# Altium schematic symbol library SCH - MCU - ATSAM - MICROCHIP SAME51G18A-MU QFN48.SchLib: 1 symbol
Pins are listed as number, name and electrical type; pins without a type are passive.

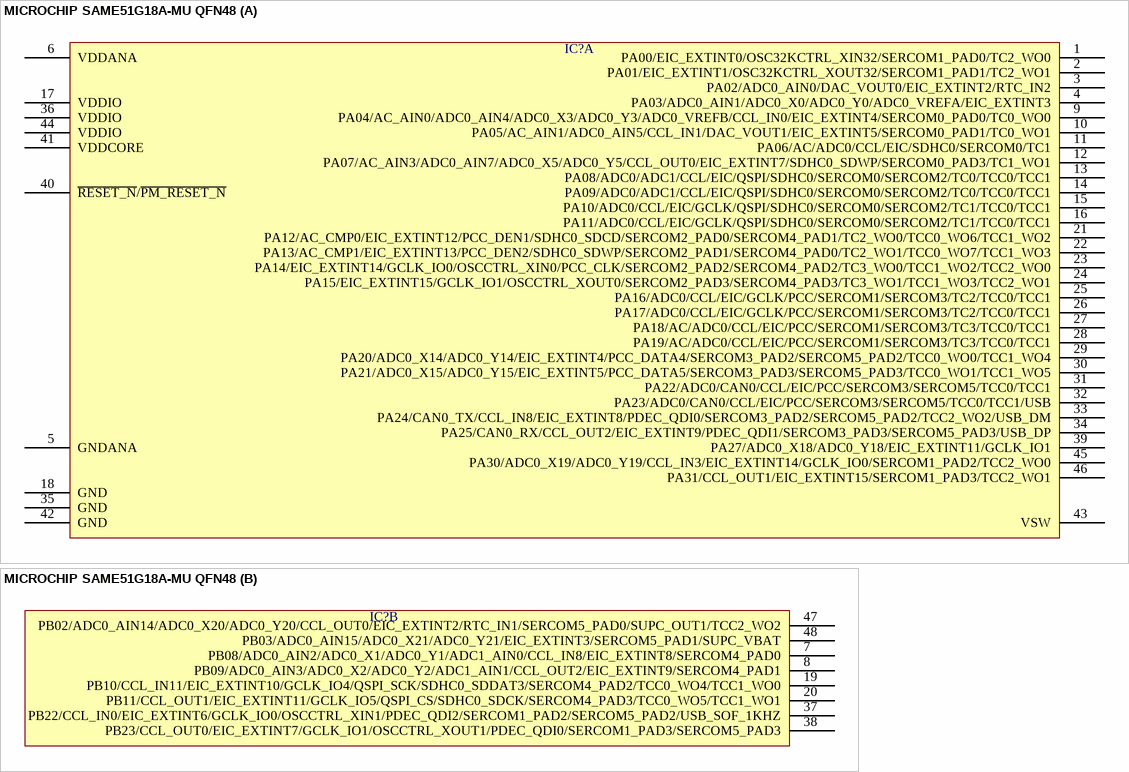
[diagram p0: symbol MICROCHIP SAME51G18A-MU QFN48]

## MICROCHIP SAME51G18A-MU QFN48
designator IC?  (value not drawn)
part A pins: 1 PA00/EIC_EXTINT0/OSC32KCTRL_XIN32/SERCOM1_PAD0/TC2_WO0, 2 PA01/EIC_EXTINT1/OSC32KCTRL_XOUT32/SERCOM1_PAD1/TC2_WO1, 3 PA02/ADC0_AIN0/DAC_VOUT0/EIC_EXTINT2/RTC_IN2, 4 PA03/ADC0_AIN1/ADC0_X0/ADC0_Y0/ADC0_VREFA/EIC_EXTINT3, 5 GNDANA, 6 VDDANA, 9 PA04/AC_AIN0/ADC0_AIN4/ADC0_X3/ADC0_Y3/ADC0_VREFB/CCL_IN0/EIC_EXTINT4/SERCOM0_PAD0/TC0_WO0, 10 PA05/AC_AIN1/ADC0_AIN5/CCL_IN1/DAC_VOUT1/EIC_EXTINT5/SERCOM0_PAD1/TC0_WO1, 11 PA06/AC/ADC0/CCL/EIC/SDHC0/SERCOM0/TC1, 12 PA07/AC_AIN3/ADC0_AIN7/ADC0_X5/ADC0_Y5/CCL_OUT0/EIC_EXTINT7/SDHC0_SDWP/SERCOM0_PAD3/TC1_WO1, 13 PA08/ADC0/ADC1/CCL/EIC/QSPI/SDHC0/SERCOM0/SERCOM2/TC0/TCC0/TCC1, 14 PA09/ADC0/ADC1/CCL/EIC/QSPI/SDHC0/SERCOM0/SERCOM2/TC0/TCC0/TCC1, 15 PA10/ADC0/CCL/EIC/GCLK/QSPI/SDHC0/SERCOM0/SERCOM2/TC1/TCC0/TCC1, 16 PA11/ADC0/CCL/EIC/GCLK/QSPI/SDHC0/SERCOM0/SERCOM2/TC1/TCC0/TCC1, 17 VDDIO, 18 GND, 21 PA12/AC_CMP0/EIC_EXTINT12/PCC_DEN1/SDHC0_SDCD/SERCOM2_PAD0/SERCOM4_PAD1/TC2_WO0/TCC0_WO6/TCC1_WO2, 22 PA13/AC_CMP1/EIC_EXTINT13/PCC_DEN2/SDHC0_SDWP/SERCOM2_PAD1/SERCOM4_PAD0/TC2_WO1/TCC0_WO7/TCC1_WO3, 23 PA14/EIC_EXTINT14/GCLK_IO0/OSCCTRL_XIN0/PCC_CLK/SERCOM2_PAD2/SERCOM4_PAD2/TC3_WO0/TCC1_WO2/TCC2_WO0, 24 PA15/EIC_EXTINT15/GCLK_IO1/OSCCTRL_XOUT0/SERCOM2_PAD3/SERCOM4_PAD3/TC3_WO1/TCC1_WO3/TCC2_WO1, 25 PA16/ADC0/CCL/EIC/GCLK/PCC/SERCOM1/SERCOM3/TC2/TCC0/TCC1, 26 PA17/ADC0/CCL/EIC/GCLK/PCC/SERCOM1/SERCOM3/TC2/TCC0/TCC1, 27 PA18/AC/ADC0/CCL/EIC/PCC/SERCOM1/SERCOM3/TC3/TCC0/TCC1, 28 PA19/AC/ADC0/CCL/EIC/PCC/SERCOM1/SERCOM3/TC3/TCC0/TCC1, 29 PA20/ADC0_X14/ADC0_Y14/EIC_EXTINT4/PCC_DATA4/SERCOM3_PAD2/SERCOM5_PAD2/TCC0_WO0/TCC1_WO4, 30 PA21/ADC0_X15/ADC0_Y15/EIC_EXTINT5/PCC_DATA5/SERCOM3_PAD3/SERCOM5_PAD3/TCC0_WO1/TCC1_WO5, 31 PA22/ADC0/CAN0/CCL/EIC/PCC/SERCOM3/SERCOM5/TCC0/TCC1, 32 PA23/ADC0/CAN0/CCL/EIC/PCC/SERCOM3/SERCOM5/TCC0/TCC1/USB, 33 PA24/CAN0_TX/CCL_IN8/EIC_EXTINT8/PDEC_QDI0/SERCOM3_PAD2/SERCOM5_PAD2/TCC2_WO2/USB_DM, 34 PA25/CAN0_RX/CCL_OUT2/EIC_EXTINT9/PDEC_QDI1/SERCOM3_PAD3/SERCOM5_PAD3/USB_DP, 35 GND, 36 VDDIO, 39 PA27/ADC0_X18/ADC0_Y18/EIC_EXTINT11/GCLK_IO1, 40 ~{RESET_N}/~{PM_RESET_N}, 41 VDDCORE, 42 GND, 43 VSW, 44 VDDIO, 45 PA30/ADC0_X19/ADC0_Y19/CCL_IN3/EIC_EXTINT14/GCLK_IO0/SERCOM1_PAD2/TCC2_WO0, 46 PA31/CCL_OUT1/EIC_EXTINT15/SERCOM1_PAD3/TCC2_WO1
part B pins: 7 PB08/ADC0_AIN2/ADC0_X1/ADC0_Y1/ADC1_AIN0/CCL_IN8/EIC_EXTINT8/SERCOM4_PAD0, 8 PB09/ADC0_AIN3/ADC0_X2/ADC0_Y2/ADC1_AIN1/CCL_OUT2/EIC_EXTINT9/SERCOM4_PAD1, 19 PB10/CCL_IN11/EIC_EXTINT10/GCLK_IO4/QSPI_SCK/SDHC0_SDDAT3/SERCOM4_PAD2/TCC0_WO4/TCC1_WO0, 20 PB11/CCL_OUT1/EIC_EXTINT11/GCLK_IO5/QSPI_CS/SDHC0_SDCK/SERCOM4_PAD3/TCC0_WO5/TCC1_WO1, 37 PB22/CCL_IN0/EIC_EXTINT6/GCLK_IO0/OSCCTRL_XIN1/PDEC_QDI2/SERCOM1_PAD2/SERCOM5_PAD2/USB_SOF_1KHZ, 38 PB23/CCL_OUT0/EIC_EXTINT7/GCLK_IO1/OSCCTRL_XOUT1/PDEC_QDI0/SERCOM1_PAD3/SERCOM5_PAD3, 47 PB02/ADC0_AIN14/ADC0_X20/ADC0_Y20/CCL_OUT0/EIC_EXTINT2/RTC_IN1/SERCOM5_PAD0/SUPC_OUT1/TCC2_WO2, 48 PB03/ADC0_AIN15/ADC0_X21/ADC0_Y21/EIC_EXTINT3/SERCOM5_PAD1/SUPC_VBAT